# Altium footprint library PartsDatabaseV12.PcbLib: 97 footprints (part 3 of 7)
Each footprint in its own frame and in the unit in brackets; x right, y up, seen from the top. Pads: shape width x height; smd on the part's side, far side on the other; paste and mask are expansions set on the pad; w line width, h text height; cw(c..) or ccw(c..) is an arc to the next point about the centre after c.
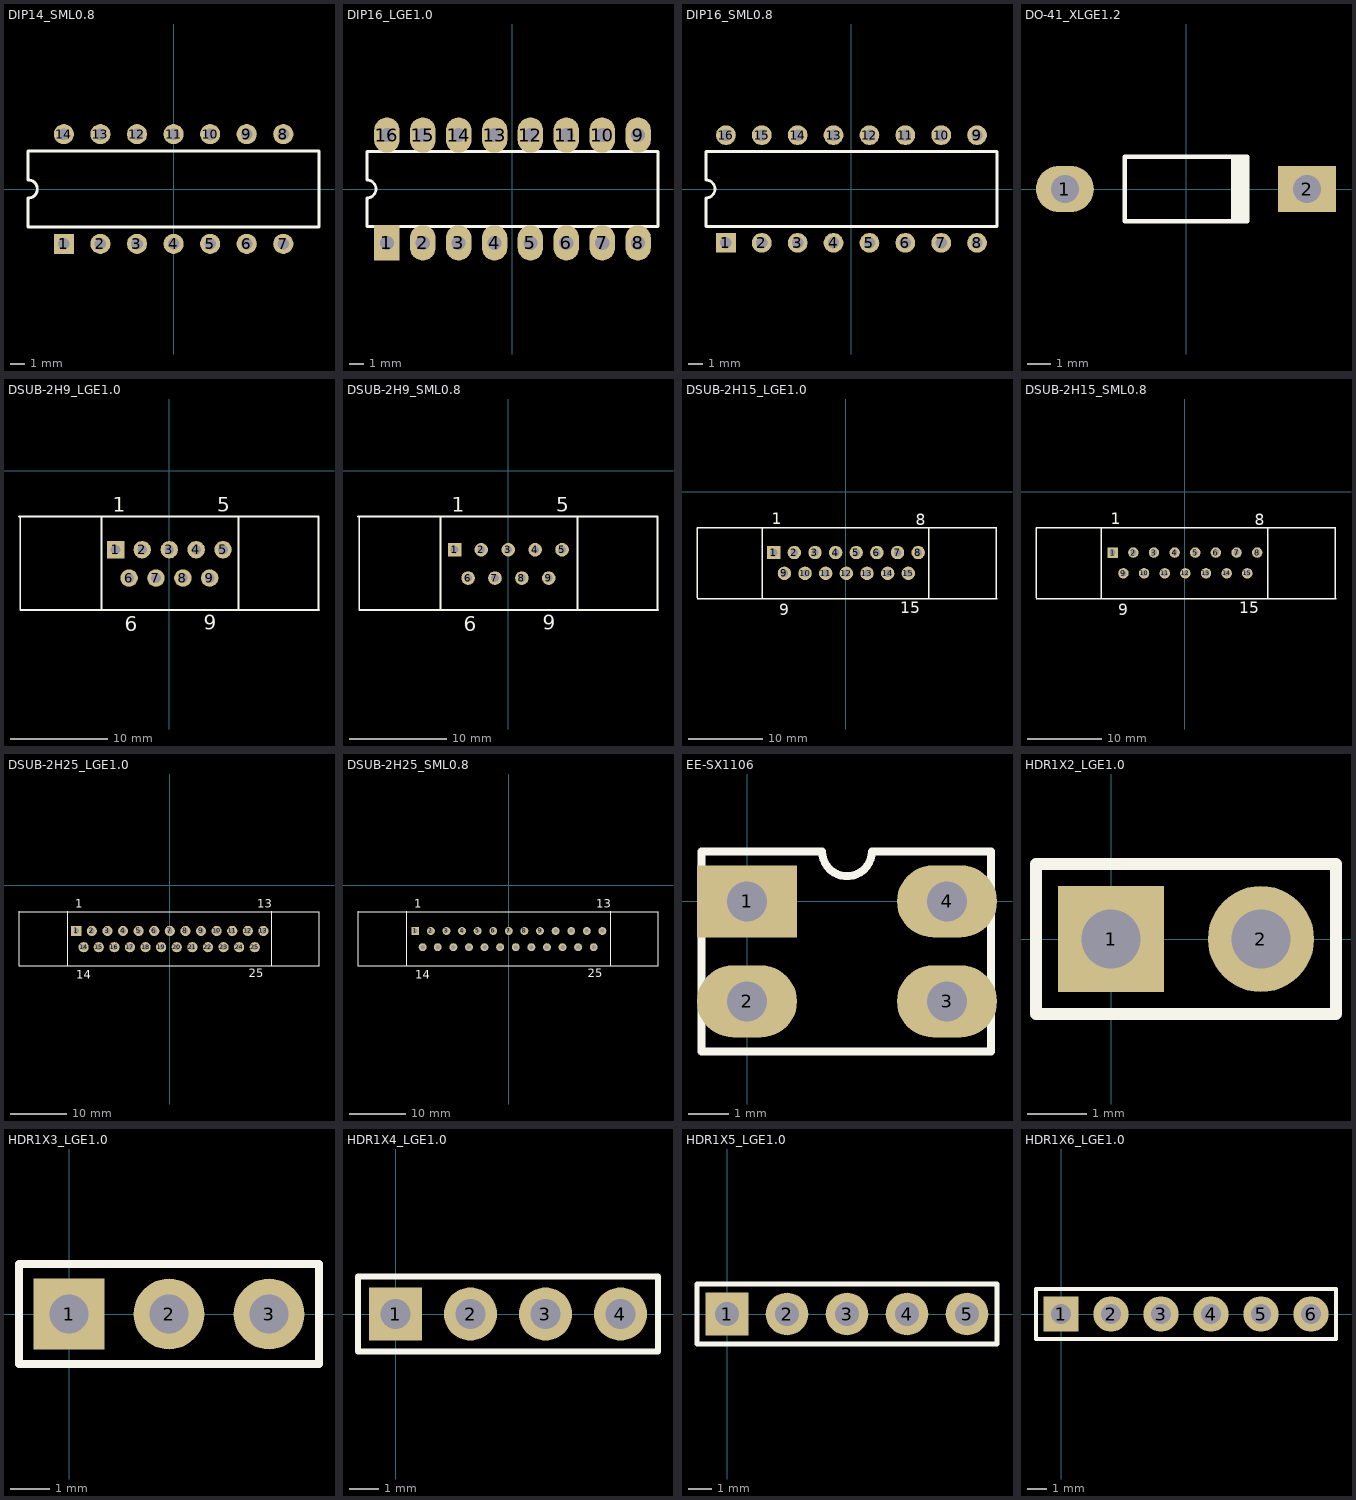
[diagram p2: the footprints below, top view; thin cyan lines are the x and y axes]

## DIP14_SML0.8 [mm] "DIP; 14 Leads; Row Spacing 7.62 mm; Pitch 2.54 mm"
height 5.1
pads (14):
  rect 1.4x1.4 hole 0.8: 1(-7.62,-3.81)
  round 1.4 hole 0.8: 2(-5.08,-3.81) 3(-2.54,-3.81) 4(0,-3.81) 5(2.54,-3.81) 6(5.08,-3.81) 7(7.62,-3.81) 8(7.62,3.81) 9(5.08,3.81) 10(2.54,3.81) 11(0,3.81) 12(-2.54,3.81) 13(-5.08,3.81) 14(-7.62,3.81)
Top Overlay:
  lines w0.2: -10.1,-2.65 10.1,-2.65 10.1,2.65 -10.1,2.65 -10.1,0.635 cw(c-10.1,0) -10.1,-0.635 -10.1,-2.65

## DIP16_LGE1.0 [mm] "DIP; 16 Leads; Row Spacing 7.62 mm; Pitch 2.54 mm"
height 5.1
pads (16):
  rect 1.8x2.5 hole 1: 1(-8.89,-3.81)
  oval 1.8x2.5 hole 1: 2(-6.35,-3.81) 3(-3.81,-3.81) 4(-1.27,-3.81) 5(1.27,-3.81) 6(3.81,-3.81) 7(6.35,-3.81) 8(8.89,-3.81) 9(8.89,3.81) 10(6.35,3.81) 11(3.81,3.81) 12(1.27,3.81) 13(-1.27,3.81) 14(-3.81,3.81) 15(-6.35,3.81) 16(-8.89,3.81)
Top Overlay:
  lines w0.2: -10.3,-2.65 10.3,-2.65 10.3,2.65 -10.3,2.65 -10.3,0.635 cw(c-10.3,0) -10.3,-0.635 -10.3,-2.65

## DIP16_SML0.8 [mm] "DIP; 16 Leads; Row Spacing 7.62 mm; Pitch 2.54 mm"
height 5.1
pads (16):
  rect 1.4x1.4 hole 0.8: 1(-8.89,-3.81)
  round 1.4 hole 0.8: 2(-6.35,-3.81) 3(-3.81,-3.81) 4(-1.27,-3.81) 5(1.27,-3.81) 6(3.81,-3.81) 7(6.35,-3.81) 8(8.89,-3.81) 9(8.89,3.81) 10(6.35,3.81) 11(3.81,3.81) 12(1.27,3.81) 13(-1.27,3.81) 14(-3.81,3.81) 15(-6.35,3.81) 16(-8.89,3.81)
Top Overlay:
  lines w0.2: -10.3,-2.65 -10.3,-0.635 ccw(c-10.3,0) -10.3,0.635 -10.3,2.65 10.3,2.65 10.3,-2.65 -10.3,-2.65

## DO-41_XLGE1.2 [mm] "Diode, Axial; Body 5.2 x 2.7 mm (LxDia. max), Lead Dia. 0.86 mm (max)"
height 2.8
pads (2):
  oval 2.5x2 hole 1.2: 1(-5.23,0)
  rect 2.5x2 hole 1.2: 2(5.23,0)
Top Overlay:
  rectangle: 1.95,-1.4 2.75,1.4
  lines w0.2: 2.65,-1.4 -2.65,-1.4 -2.65,1.4 2.65,1.4

## DSUB-2H9_LGE1.0 [mm] "Connector; D Subminiature; 9 Position; Pitch 1.37 mm"
height 12.75
pads (9):
  rect 1.8x1.8 hole 1: 1(-5.54,-8.128)
  round 1.8 hole 1: 2(-2.794,-8.128) 3(0,-8.128) 4(2.77,-8.128) 5(5.54,-8.128) 6(-4.143,-11.049) 7(-1.373,-11.049) 8(1.397,-11.049) 9(4.167,-11.049)
Top Overlay:
  lines w0.2: -15.494,-4.699 15.367,-4.699 15.367,-14.351 ; -15.367,-14.351 15.433,-14.351 ; -15.367,-14.224 -15.367,-4.699 ; -6.985,-14.224 -6.985,-4.824 ; 7.112,-14.224 7.112,-4.824
  text "1" at -5.842,-4.191 h1.5
  text "5" at 4.953,-4.191 h1.5
  text "9" at 3.556,-16.383 h1.5
  text "6" at -4.572,-16.51 h1.5

## DSUB-2H9_SML0.8 [mm] "Connector; D Subminiature; 9 Position; Pitch 1.37 mm"
height 12.75
pads (9):
  rect 1.4x1.4 hole 0.8: 1(-5.54,-8.128)
  round 1.4 hole 0.8: 2(-2.794,-8.128) 3(0,-8.128) 4(2.77,-8.128) 5(5.54,-8.128) 6(-4.143,-11.049) 7(-1.373,-11.049) 8(1.397,-11.049) 9(4.167,-11.049)
Top Overlay:
  lines w0.2: -15.494,-4.699 15.367,-4.699 15.367,-14.351 ; -15.367,-14.351 15.433,-14.351 ; -15.367,-14.224 -15.367,-4.699 ; -6.985,-14.224 -6.985,-4.824 ; 7.112,-14.224 7.112,-4.824
  text "1" at -5.842,-4.191 h1.5
  text "5" at 4.953,-4.191 h1.5
  text "9" at 3.556,-16.383 h1.5
  text "6" at -4.572,-16.51 h1.5

## DSUB-2H15_LGE1.0 [mm] "Connector; D Subminiature; 15 Position; Pitch 1.37mm"
height 12.75
pads (15):
  rect 1.8x1.8 hole 1: 1(-9.647,-8.126)
  round 1.8 hole 1: 2(-6.877,-8.126) 3(-4.107,-8.126) 4(-1.337,-8.126) 5(1.433,-8.126) 6(4.203,-8.126) 7(6.973,-8.126) 8(9.743,-8.126) 9(-8.207,-10.922) 10(-5.437,-10.922) 11(-2.667,-10.922) 12(0.103,-10.922) 13(2.873,-10.922) 14(5.643,-10.922) 15(8.413,-10.922)
Top Overlay:
  lines w0.2: -19.939,-14.351 20.32,-14.351 ; -19.939,-14.224 -19.939,-4.826 ; -19.934,-4.826 20.066,-4.826 ; -11.176,-14.326 -11.176,-4.826 ; 11.176,-14.326 11.176,-4.826 ; 20.193,-14.351 20.193,-4.699
  text "1" at -9.906,-4.318 h1.5
  text "8" at 9.398,-4.445 h1.5
  text "15" at 7.366,-16.256 h1.5
  text "9" at -8.89,-16.51 h1.5

## DSUB-2H15_SML0.8 [mm] "Connector; D Subminiature; 15 Position; Pitch 1.37 mm"
height 12.75
pads (15):
  rect 1.4x1.4 hole 0.8: 1(-9.647,-8.126)
  round 1.4 hole 0.8: 2(-6.877,-8.126) 3(-4.107,-8.126) 4(-1.337,-8.126) 5(1.433,-8.126) 6(4.203,-8.126) 7(6.973,-8.126) 8(9.743,-8.126) 9(-8.207,-10.922) 10(-5.437,-10.922) 11(-2.667,-10.922) 12(0.103,-10.922) 13(2.873,-10.922) 14(5.643,-10.922) 15(8.413,-10.922)
Top Overlay:
  lines w0.2: -19.939,-14.351 20.32,-14.351 ; -19.939,-14.224 -19.939,-4.826 ; -19.934,-4.826 20.066,-4.826 ; -11.176,-14.326 -11.176,-4.826 ; 11.176,-14.326 11.176,-4.826 ; 20.193,-14.351 20.193,-4.699
  text "1" at -9.906,-4.318 h1.5
  text "8" at 9.398,-4.445 h1.5
  text "15" at 7.366,-16.256 h1.5
  text "9" at -8.89,-16.51 h1.5

## DSUB-2H25_LGE1.0 [mm] "Connector; D Subminiature; 25 Position; Pitch 1.37 mm"
height 12.93
pads (25):
  rect 1.8x1.8 hole 1: 1(-16.555,-8.049)
  round 1.8 hole 1: 2(-13.794,-8.049) 3(-11.033,-8.049) 4(-8.272,-8.049) 5(-5.511,-8.049) 6(-2.75,-8.049) 7(0.011,-8.049) 8(2.772,-8.049) 9(5.533,-8.049) 10(8.294,-8.049) 11(11.055,-8.049) 12(13.816,-8.049) 13(16.577,-8.049) 14(-15.24,-10.922) 15(-12.573,-10.922) 16(-9.807,-10.922) 17(-7.046,-10.922) 18(-4.285,-10.922) 19(-1.524,-10.922) 20(1.237,-10.922) 21(3.998,-10.922) 22(6.759,-10.922) 23(9.52,-10.922) 24(12.281,-10.922) 25(15.042,-10.922)
Top Overlay:
  lines w0.2: -26.684,-14.224 26.416,-14.224 26.416,-4.699 ; -26.67,-14.097 -26.67,-4.572 ; -26.543,-4.651 26.416,-4.651 ; -18.034,-14.097 -18.034,-4.597 ; 18.034,-14.097 18.034,-4.597
  text "1" at -16.764,-3.937 h1.5
  text "13" at 15.494,-3.937 h1.5
  text "14" at -16.51,-16.51 h1.5
  text "25" at 13.97,-16.256 h1.5

## DSUB-2H25_SML0.8 [mm] "Connector; D Subminiature; 25 Position; Pitch 1.37 mm"
height 12.93
pads (25):
  rect 1.4x1.4 hole 0.8: 1(-16.555,-8.049)
  round 1.4 hole 0.8: 2(-13.794,-8.049) 3(-11.033,-8.049) 4(-8.272,-8.049) 5(-5.511,-8.049) 6(-2.75,-8.049) 7(0.011,-8.049) 8(2.772,-8.049) 9(5.533,-8.049) 10(8.294,-8.049) 11(11.055,-8.049) 12(13.816,-8.049) 13(16.577,-8.049) 14(-15.24,-10.922) 15(-12.573,-10.922) 16(-9.807,-10.922) 17(-7.046,-10.922) 18(-4.285,-10.922) 19(-1.524,-10.922) 20(1.237,-10.922) 21(3.998,-10.922) 22(6.759,-10.922) 23(9.52,-10.922) 24(12.281,-10.922) 25(15.042,-10.922)
Top Overlay:
  lines w0.2: -26.684,-14.224 26.416,-14.224 26.416,-4.699 ; -26.67,-14.097 -26.67,-4.572 ; -26.543,-4.651 26.416,-4.651 ; -18.034,-14.097 -18.034,-4.597 ; 18.034,-14.097 18.034,-4.597
  text "25" at 13.97,-16.256 h1.5
  text "14" at -16.51,-16.51 h1.5
  text "13" at 15.494,-3.937 h1.5
  text "1" at -16.764,-3.937 h1.5

## EE-SX1106 [mm]
pads (4):
  rect 2.5x1.8 hole 1: 1(0,0)
  oval 2.5x1.8 hole 1: 2(0,-2.5) 3(5,-2.5) 4(5,0)
Top Overlay:
  lines w0.2: 1.875,1.25 -1.143,1.25 -1.143,-3.75 6.096,-3.75 6.096,1.25 3.125,1.25 ; 1.879,1.25 ccw(c2.5,1.25) 3.121,1.25

## HDR1X2_LGE1.0 [mm] "Connector; Header; 2 Position"
pads (2):
  rect 1.8x1.8 hole 1: 1(0,0)
  round 1.8 hole 1: 2(2.54,0)
Top Overlay:
  lines w0.2: -1.27,-1.27 3.81,-1.27 3.81,1.27 -1.27,1.27 -1.27,-1.27

## HDR1X3_LGE1.0 [mm] "Connector; Header; 4 Position"
pads (3):
  rect 1.8x1.8 hole 1: 1(0,0)
  round 1.8 hole 1: 2(2.54,0) 3(5.08,0)
Top Overlay:
  lines w0.2: -1.27,-1.27 -1.27,1.27 6.35,1.27 6.35,-1.27 -1.27,-1.27

## HDR1X4_LGE1.0 [mm] "Connector; Header; 4 Position"
pads (4):
  rect 1.8x1.8 hole 1: 1(0,0)
  round 1.8 hole 1: 2(2.54,0) 3(5.08,0) 4(7.62,0)
Top Overlay:
  lines w0.2: -1.27,-1.27 -1.27,1.27 8.89,1.27 8.89,-1.27 -1.27,-1.27

## HDR1X5_LGE1.0 [mm] "Connector; Header; 6 Position"
pads (5):
  rect 1.8x1.8 hole 1: 1(0,0)
  round 1.8 hole 1: 2(2.54,0) 3(5.08,0) 4(7.62,0) 5(10.16,0)
Top Overlay:
  lines w0.2: -1.27,-1.27 -1.27,1.27 11.43,1.27 11.43,-1.27 -1.27,-1.27

## HDR1X6_LGE1.0 [mm] "Connector; Header; 6 Position"
pads (6):
  rect 1.8x1.8 hole 1: 1(0,0)
  round 1.8 hole 1: 2(2.54,0) 3(5.08,0) 4(7.62,0) 5(10.16,0) 6(12.7,0)
Top Overlay:
  lines w0.2: -1.27,-1.27 -1.27,1.27 13.97,1.27 13.97,-1.27 -1.27,-1.27